# Altium footprint library DIP-C  0607.PcbLib: 73 footprints (part 2 of 5)
Each footprint in its own frame and in the unit in brackets; x right, y up, seen from the top. Pads: shape width x height; smd on the part's side, far side on the other; paste and mask are expansions set on the pad; w line width, h text height; cw(c..) or ccw(c..) is an arc to the next point about the centre after c.
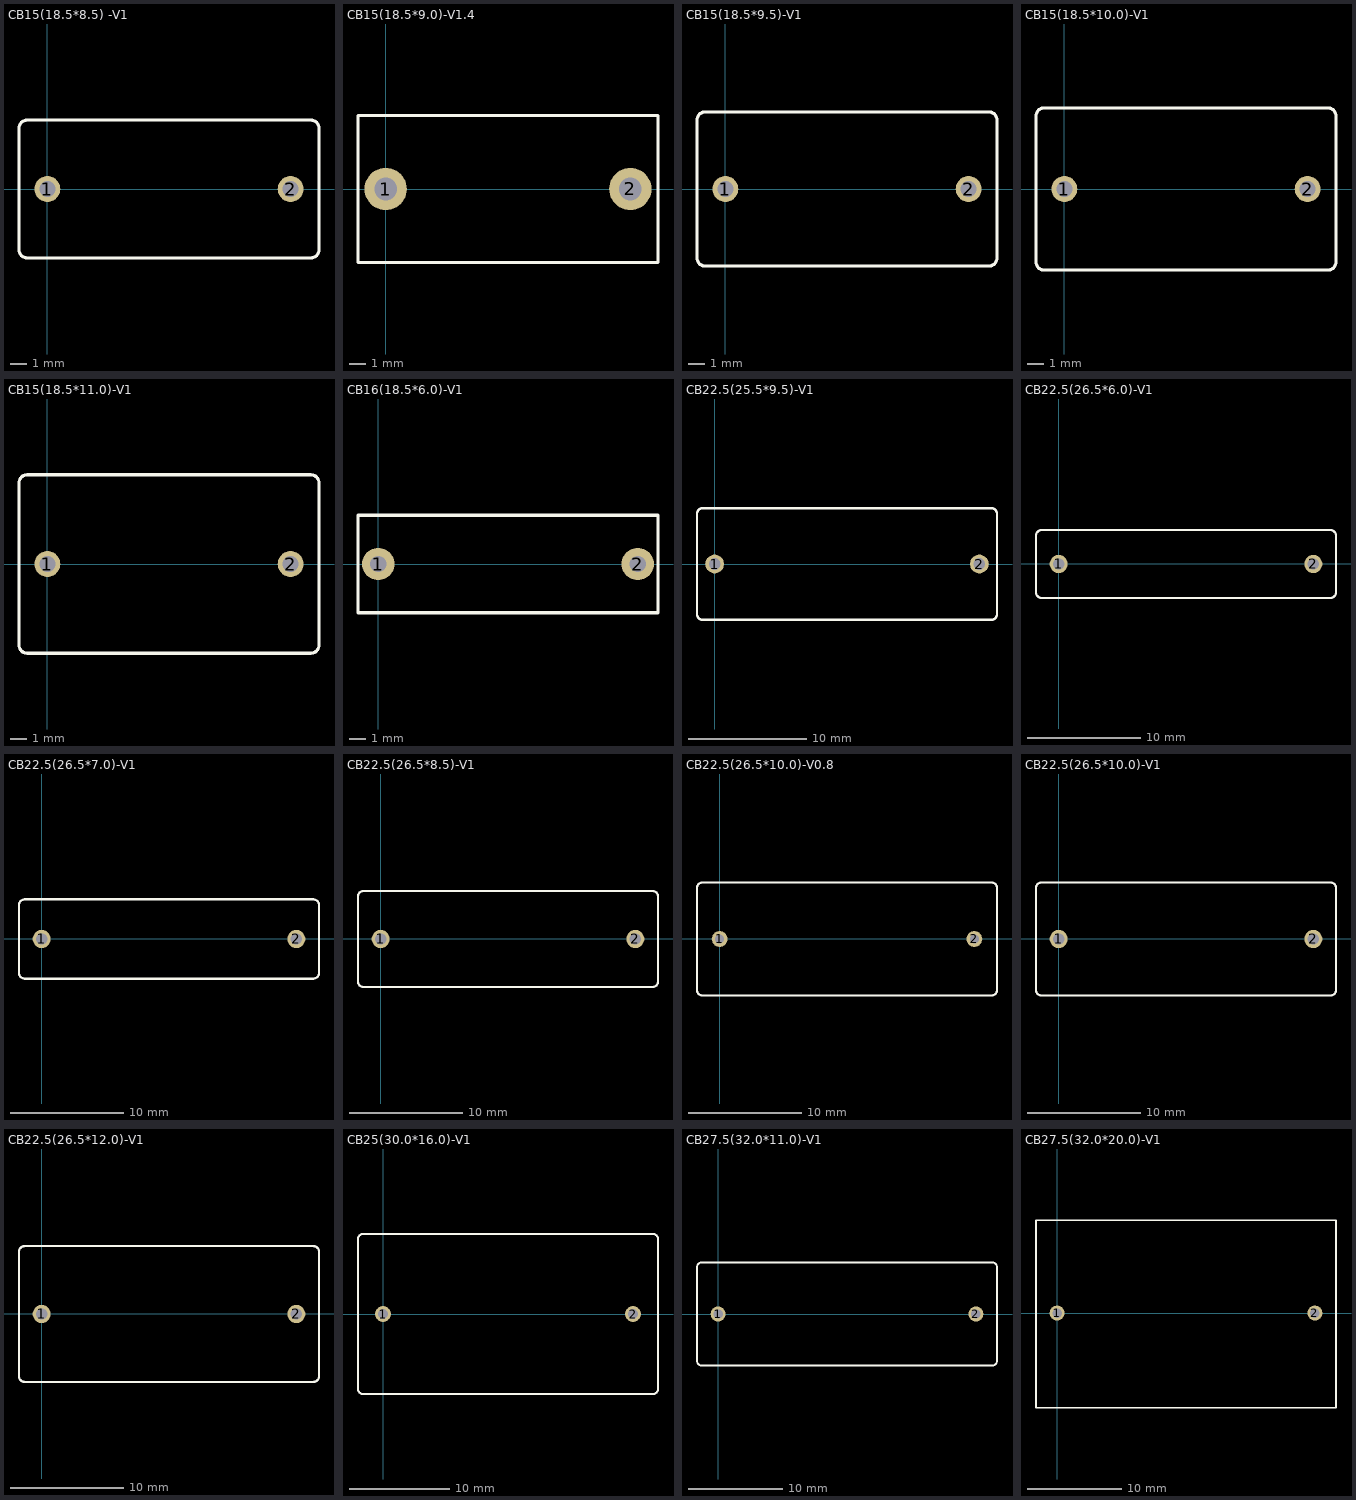
[diagram p1: the footprints below, top view; thin cyan lines are the x and y axes]

## CB15(18.5*8.5) -V1 [mm]
height 17.5
pads (2):
  round 1.6 hole 1: 1(0,0) 2(15,0)
TopOverlay:
  lines w0.2: -1.75,-3.75 ccw(c-1.25,-3.75) -1.25,-4.25 16.25,-4.25 ccw(c16.25,-3.75) 16.75,-3.75 16.75,3.75 ccw(c16.25,3.75) 16.25,4.25 -1.25,4.25 ccw(c-1.25,3.75) -1.75,3.75 -1.75,-3.75

## CB15(18.5*9.0)-V1.4 [mm]
pads (2):
  round 2.6 hole 1.4: 1(0.008,0.007) 2(15.008,0.007)
TopOverlay:
  lines w0.2: -1.692,-4.493 16.705,-4.493 16.705,4.507 -1.692,4.507 -1.692,-4.493

## CB15(18.5*9.5)-V1 [mm]
height 15.5
pads (2):
  round 1.6 hole 1: 1(0,0) 2(15,0)
TopOverlay:
  lines w0.2: -1.75,-4.25 ccw(c-1.25,-4.25) -1.25,-4.75 16.25,-4.75 ccw(c16.25,-4.25) 16.75,-4.25 16.75,4.25 ccw(c16.25,4.25) 16.25,4.75 -1.25,4.75 ccw(c-1.25,4.25) -1.75,4.25 -1.75,-4.25

## CB15(18.5*10.0)-V1 [mm]
height 18.5
pads (2):
  round 1.6 hole 1: 1(0,0) 2(15,0)
TopOverlay:
  lines w0.2: -1.75,-4.5 ccw(c-1.25,-4.5) -1.25,-5 16.25,-5 ccw(c16.25,-4.5) 16.75,-4.5 16.75,4.5 ccw(c16.25,4.5) 16.25,5 -1.25,5 ccw(c-1.25,4.5) -1.75,4.5 -1.75,-4.5

## CB15(18.5*11.0)-V1 [mm]
height 19
pads (2):
  round 1.6 hole 1: 1(0,0) 2(15,0)
TopOverlay:
  lines w0.2: -1.75,-5 ccw(c-1.25,-5) -1.25,-5.5 16.25,-5.5 ccw(c16.25,-5) 16.75,-5 16.75,5 ccw(c16.25,5) 16.25,5.5 -1.25,5.5 ccw(c-1.25,5) -1.75,5 -1.75,-5

## CB16(18.5*6.0)-V1 [mm]
pads (2):
  round 2 hole 1: 1(-0.012,0.003) 2(15.988,0.003)
TopOverlay:
  lines w0.2: -1.262,-2.997 -1.262,3.003 17.238,3.003 17.238,-2.997 -1.262,-2.997

## CB22.5(25.5*9.5)-V1 [mm]
height 20.8
pads (2):
  round 1.6 hole 1: 1(0,0) 2(22.5,0)
TopOverlay:
  lines w0.2: -1.5,-4.25 ccw(c-1,-4.25) -1,-4.75 23.5,-4.75 ccw(c23.5,-4.25) 24,-4.25 24,4.25 ccw(c23.5,4.25) 23.5,4.75 -1,4.75 ccw(c-1,4.25) -1.5,4.25 -1.5,-4.25

## CB22.5(26.5*6.0)-V1 [mm]
height 15
pads (2):
  round 1.6 hole 1: 1(0,0) 2(22.5,0)
TopOverlay:
  lines w0.2: -2,-2.5 ccw(c-1.5,-2.5) -1.5,-3 24,-3 ccw(c24,-2.5) 24.5,-2.5 24.5,2.5 ccw(c24,2.5) 24,3 -1.5,3 ccw(c-1.5,2.5) -2,2.5 -2,-2.5

## CB22.5(26.5*7.0)-V1 [mm]
height 15
pads (2):
  round 1.6 hole 1: 1(0,0) 2(22.5,0)
TopOverlay:
  lines w0.2: -2,-3 ccw(c-1.5,-3) -1.5,-3.5 24,-3.5 ccw(c24,-3) 24.5,-3 24.5,3 ccw(c24,3) 24,3.5 -1.5,3.5 ccw(c-1.5,3) -2,3 -2,-3

## CB22.5(26.5*8.5)-V1 [mm]
height 22.5
pads (2):
  round 1.6 hole 1: 1(0,0) 2(22.5,0)
TopOverlay:
  lines w0.2: -2,-3.75 ccw(c-1.5,-3.75) -1.5,-4.25 24,-4.25 ccw(c24,-3.75) 24.5,-3.75 24.5,3.75 ccw(c24,3.75) 24,4.25 -1.5,4.25 ccw(c-1.5,3.75) -2,3.75 -2,-3.75

## CB22.5(26.5*10.0)-V0.8 [mm]
height 18.5
pads (2):
  round 1.4 hole 0.8: 1(0,0) 2(22.5,0)
TopOverlay:
  lines w0.2: -2,-4.5 ccw(c-1.5,-4.5) -1.5,-5 24,-5 ccw(c24,-4.5) 24.5,-4.5 24.5,4.5 ccw(c24,4.5) 24,5 -1.5,5 ccw(c-1.5,4.5) -2,4.5 -2,-4.5

## CB22.5(26.5*10.0)-V1 [mm]
height 19
pads (2):
  round 1.6 hole 1: 1(0,0) 2(22.5,0)
TopOverlay:
  lines w0.2: -2,-4.5 ccw(c-1.5,-4.5) -1.5,-5 24,-5 ccw(c24,-4.5) 24.5,-4.5 24.5,4.5 ccw(c24,4.5) 24,5 -1.5,5 ccw(c-1.5,4.5) -2,4.5 -2,-4.5

## CB22.5(26.5*12.0)-V1 [mm]
height 21
pads (2):
  round 1.6 hole 1: 1(0,0) 2(22.5,0)
TopOverlay:
  lines w0.2: -2,-5.5 ccw(c-1.5,-5.5) -1.5,-6 24,-6 ccw(c24,-5.5) 24.5,-5.5 24.5,5.5 ccw(c24,5.5) 24,6 -1.5,6 ccw(c-1.5,5.5) -2,5.5 -2,-5.5

## CB25(30.0*16.0)-V1 [mm]
height 25
pads (2):
  round 1.6 hole 1: 1(0,0) 2(25,0)
TopOverlay:
  lines w0.2: -2.5,-7.5 ccw(c-2,-7.5) -2,-8 27,-8 ccw(c27,-7.5) 27.5,-7.5 27.5,7.5 ccw(c27,7.5) 27,8 -2,8 ccw(c-2,7.5) -2.5,7.5 -2.5,-7.5

## CB27.5(32.0*11.0)-V1 [mm]
height 21
pads (2):
  round 1.6 hole 1: 1(0,0) 2(27.5,0)
TopOverlay:
  lines w0.2: -2.25,-5 ccw(c-1.75,-5) -1.75,-5.5 29.25,-5.5 ccw(c29.25,-5) 29.75,-5 29.75,5 ccw(c29.25,5) 29.25,5.5 -1.75,5.5 ccw(c-1.75,5) -2.25,5 -2.25,-5

## CB27.5(32.0*20.0)-V1 [mm]
height 29
pads (2):
  round 1.6 hole 1 mask-0.5: 1(0,0) 2(27.5,0)
TopOverlay:
  lines w0.2: -2.25,-10.1 29.75,-10.1 29.75,9.9 -2.25,9.9 -2.25,-10.1